# EAGLE library part ESC-FULL (library MotherboardParts)
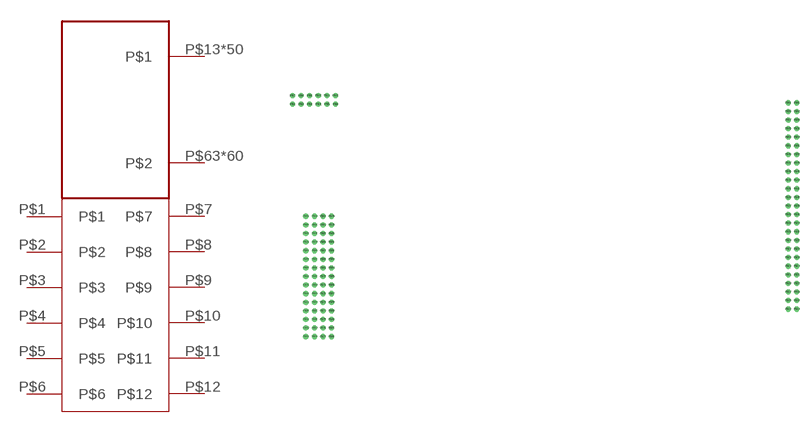
[diagram p1: symbol with the pads of ESC-FULL; footprint ESC-FULL]

Designator prefix -; gates G$1=ESC-CONNECTOR G$2=POWER-CONNECTOR(2X6)

## ESC-FULL  [ESC-FULL]
P$1  G$2:P$1
P$2  G$2:P$2
P$3  G$2:P$3
P$4  G$2:P$4
P$5  G$2:P$5
P$6  G$2:P$6
P$7  G$2:P$7
P$8  G$2:P$8
P$9  G$2:P$9
P$10  G$2:P$10
P$11  G$2:P$11
P$12  G$2:P$12
P$13  G$1:P$1
P$14  G$1:P$1
P$15  G$1:P$1
P$16  G$1:P$1
P$17  G$1:P$1
P$18  G$1:P$1
P$19  G$1:P$1
P$20  G$1:P$1
P$21  G$1:P$1
P$22  G$1:P$1
P$23  G$1:P$1
P$24  G$1:P$1
P$25  G$1:P$1
P$26  G$1:P$1
P$27  G$1:P$1
P$28  G$1:P$1
P$29  G$1:P$1
P$30  G$1:P$1
P$31  G$1:P$1
P$32  G$1:P$1
P$33  G$1:P$1
P$34  G$1:P$1
P$35  G$1:P$1
P$36  G$1:P$1
P$37  G$1:P$1
P$38  G$1:P$1
P$39  G$1:P$1
P$40  G$1:P$1
P$41  G$1:P$1
P$42  G$1:P$1
P$43  G$1:P$1
P$44  G$1:P$1
P$45  G$1:P$1
P$46  G$1:P$1
P$47  G$1:P$1
P$48  G$1:P$1
P$49  G$1:P$1
P$50  G$1:P$1
P$51  G$1:P$1
P$52  G$1:P$1
P$53  G$1:P$1
P$54  G$1:P$1
P$55  G$1:P$1
P$56  G$1:P$1
P$57  G$1:P$1
P$58  G$1:P$1
P$59  G$1:P$1
P$60  G$1:P$1
P$61  G$1:P$1
P$62  G$1:P$1
P$63  G$1:P$2
P$64  G$1:P$2
P$65  G$1:P$2
P$66  G$1:P$2
P$67  G$1:P$2
P$68  G$1:P$2
P$69  G$1:P$2
P$70  G$1:P$2
P$71  G$1:P$2
P$72  G$1:P$2
P$73  G$1:P$2
P$74  G$1:P$2
P$75  G$1:P$2
P$76  G$1:P$2
P$77  G$1:P$2
P$78  G$1:P$2
P$79  G$1:P$2
P$80  G$1:P$2
P$81  G$1:P$2
P$82  G$1:P$2
P$83  G$1:P$2
P$84  G$1:P$2
P$85  G$1:P$2
P$86  G$1:P$2
P$87  G$1:P$2
P$88  G$1:P$2
P$89  G$1:P$2
P$90  G$1:P$2
P$91  G$1:P$2
P$92  G$1:P$2
P$101  G$1:P$2
P$102  G$1:P$2
P$103  G$1:P$2
P$104  G$1:P$2
P$105  G$1:P$2
P$106  G$1:P$2
P$107  G$1:P$2
P$108  G$1:P$2
P$109  G$1:P$2
P$110  G$1:P$2
P$111  G$1:P$2
P$112  G$1:P$2
P$113  G$1:P$2
P$114  G$1:P$2
P$115  G$1:P$2
P$116  G$1:P$2
P$117  G$1:P$2
P$118  G$1:P$2
P$119  G$1:P$2
P$120  G$1:P$2
P$121  G$1:P$2
P$122  G$1:P$2
P$123  G$1:P$2
P$124  G$1:P$2
P$125  G$1:P$2
P$126  G$1:P$2
P$127  G$1:P$2
P$128  G$1:P$2
P$129  G$1:P$2
P$130  G$1:P$2

## Footprint ESC-FULL (pad centres in mm)
drill 1: P$1 -6.35,-1.27; P$2 -3.81,-1.27; P$3 -1.27,-1.27; P$4 1.27,-1.27; P$5 3.81,-1.27; P$6 6.35,-1.27; P$7 -6.35,1.27; P$8 -3.81,1.27; P$9 -1.27,1.27; P$10 1.27,1.27; P$11 3.81,1.27; P$12 6.35,1.27; P$13 140.081,-61.849; P$14 142.621,-61.849; P$15 140.081,-59.309; P$16 142.621,-59.309; P$17 140.081,-56.769; P$18 142.621,-56.769; P$19 140.081,-54.229; P$20 142.621,-54.229; P$21 140.081,-51.689; P$22 142.621,-51.689; P$23 140.081,-49.149; P$24 142.621,-49.149; P$25 140.081,-46.609; P$26 142.621,-46.609; P$27 140.081,-44.069; P$28 142.621,-44.069; P$29 140.081,-41.529; P$30 142.621,-41.529; P$31 140.081,-38.989; P$32 142.621,-38.989; P$33 140.081,-36.449; P$34 142.621,-36.449; P$35 140.081,-33.909; P$36 142.621,-33.909; P$37 140.081,-31.369; P$38 142.621,-31.369; P$39 140.081,-28.829; P$40 142.621,-28.829; P$41 140.081,-26.289; P$42 142.621,-26.289; P$43 140.081,-23.749; P$44 142.621,-23.749; P$45 140.081,-21.209; P$46 142.621,-21.209; P$47 140.081,-18.669; P$48 142.621,-18.669; P$49 140.081,-16.129; P$50 142.621,-16.129; P$51 140.081,-13.589; P$52 142.621,-13.589; P$53 140.081,-11.049; P$54 142.621,-11.049; P$55 140.081,-8.509; P$56 142.621,-8.509; P$57 140.081,-5.969; P$58 142.621,-5.969; P$59 140.081,-3.429; P$60 142.621,-3.429; P$61 140.081,-0.889; P$62 142.621,-0.889; P$63 2.667,-34.417; P$64 2.667,-36.957; P$65 2.667,-39.497; P$66 2.667,-42.037; P$67 2.667,-44.577; P$68 2.667,-47.117; P$69 2.667,-49.657; P$70 2.667,-52.197; P$71 2.667,-54.737; P$72 2.667,-57.277; P$73 2.667,-59.817; P$74 2.667,-62.357; P$75 2.667,-64.897; P$76 2.667,-67.437; P$77 2.667,-69.977; P$78 5.207,-34.417; P$79 5.207,-36.957; P$80 5.207,-39.497; P$81 5.207,-42.037; P$82 5.207,-44.577; P$83 5.207,-47.117; P$84 5.207,-49.657; P$85 5.207,-52.197; P$86 5.207,-54.737; P$87 5.207,-57.277; P$88 5.207,-59.817; P$89 5.207,-62.357; P$90 5.207,-64.897; P$91 5.207,-67.437; P$92 5.207,-69.977; P$101 -2.413,-34.417; P$102 -2.413,-36.957; P$103 -2.413,-39.497; P$104 -2.413,-42.037; P$105 -2.413,-44.577; P$106 -2.413,-47.117; P$107 -2.413,-49.657; P$108 -2.413,-52.197; P$109 -2.413,-54.737; P$110 -2.413,-57.277; P$111 -2.413,-59.817; P$112 -2.413,-62.357; P$113 -2.413,-64.897; P$114 -2.413,-67.437; P$115 -2.413,-69.977; P$116 0.127,-34.417; P$117 0.127,-36.957; P$118 0.127,-39.497; P$119 0.127,-42.037; P$120 0.127,-44.577; P$121 0.127,-47.117; P$122 0.127,-49.657; P$123 0.127,-52.197; P$124 0.127,-54.737; P$125 0.127,-57.277; P$126 0.127,-59.817; P$127 0.127,-62.357; P$128 0.127,-64.897; P$129 0.127,-67.437; P$130 0.127,-69.977